# Altium footprint library ESP-01.PcbLib: 1 footprints
Each footprint in its own frame and in the unit in brackets; x right, y up, seen from the top. Pads: shape width x height; smd on the part's side, far side on the other; paste and mask are expansions set on the pad; w line width, h text height; cw(c..) or ccw(c..) is an arc to the next point about the centre after c.
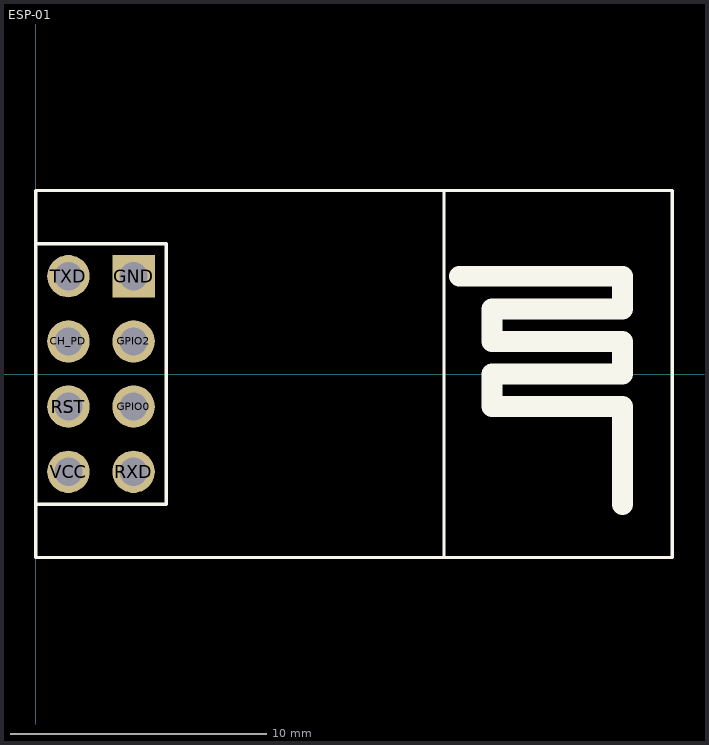
[diagram p0: the footprint, top view; thin cyan lines are the x and y axes]

## ESP-01 [mm]
pads (8):
  round 1.65 hole 1.1: CH_PD(1.27,1.27) GPIO0(3.81,-1.27) GPIO2(3.81,1.27) RST(1.27,-1.27) RXD(3.81,-3.81) TXD(1.27,3.81) VCC(1.27,-3.81)
  rect 1.65x1.65 hole 1.1: GND(3.81,3.81)
Top Overlay:
  lines w0.127: 0,-5.08 0,5.08 ; 0,-5.08 0,-7.15 15.91,-7.15 ; 0,-5.08 5.08,-5.08 5.08,5.08 0,5.08 ; 0,5.08 0,7.15 15.91,7.15 ; 15.91,-7.15 24.8,-7.15 24.8,7.15 15.91,7.15 ; 15.91,-7.15 15.91,7.15
  lines w0.813: 16.51,3.81 22.86,3.81 22.86,2.54 17.78,2.54 17.78,1.27 22.86,1.27 22.86,0 17.78,0 17.78,-1.27 22.86,-1.27 22.86,-5.08